# Altium footprint library конденсаторы.PcbLib: 48 footprints (part 1 of 3)
Each footprint in its own frame and in the unit in brackets; x right, y up, seen from the top. Pads: shape width x height; smd on the part's side, far side on the other; paste and mask are expansions set on the pad; w line width, h text height; cw(c..) or ccw(c..) is an arc to the next point about the centre after c.
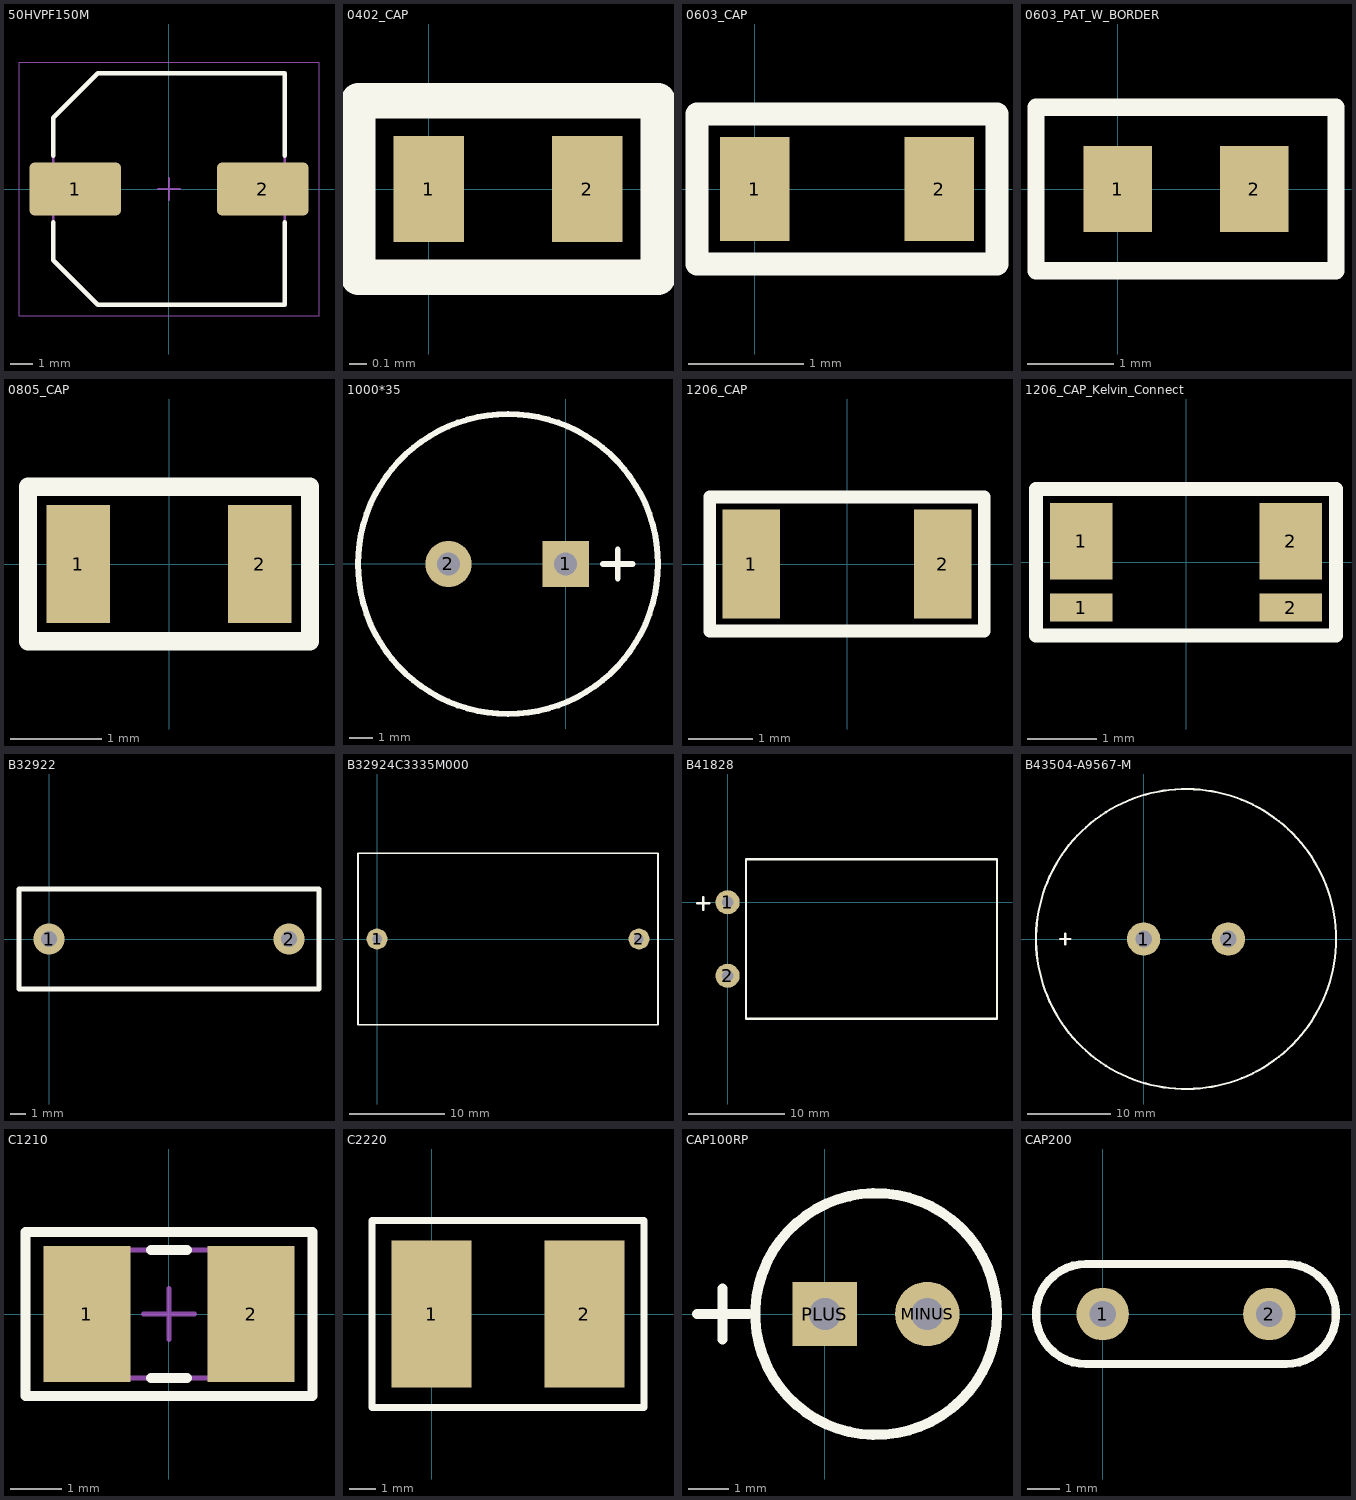
[diagram p0: the footprints below, top view; thin cyan lines are the x and y axes]

## 50HVPF150M [mm] "Aluminum Electrolytic Capacitor, Body 10,30x12,80mm"
height 12.8
pads (2):
  rrect20% 4.15x2.4 smd: 1(-4.25,0) 2(4.25,0)
Top Overlay:
  lines w0.2: -5.25,-1.5 -5.25,-3.225 -3.225,-5.25 5.25,-5.25 5.25,-1.5 ; -5.25,1.5 -5.25,3.225 -3.225,5.25 5.25,5.25 5.25,1.5
Mechanical 14:
  lines w0.1: -5.25,-3.225 -5.25,3.225 -3.225,5.25 5.25,5.25 5.25,-5.25 -3.225,-5.25 -5.25,-3.225
Mechanical 15:
  lines w0.05: -6.8,-5.75 6.8,-5.75 6.8,5.75 -6.8,5.75 -6.8,-5.75
  lines w0.1: -0.5,0 0.5,0 ; 0,-0.5 0,0.5
3D body: height 12.8, standoff 0, extent -5.25,-5.25 5.25,5.244
3D body: height 4.27, standoff 0, extent -5.25,-5.25 5.25,5.25

## 0402_CAP [mm] "Конденсатор 0402(1005)"
height 0.55
pads (2):
  rect 0.4x0.6 smd mask+0.025: 1(0,0) 2(0.9,0)
Top Overlay:
  lines w0.2: -0.4,-0.5 -0.4,0.5 1.3,0.5 1.3,-0.5 -0.4,-0.5
3D body "User Library-Capacitor 0402.SLDPRT": height 0.5, standoff 0, extent -0.05,-0.25 0.95,0.25

## 0603_CAP [mm] "Конденсатор 0603(1608)"
height 0.9
pads (2):
  rect 0.6x0.9 smd mask+0.025: 1(0,0) 2(1.6,0)
Top Overlay:
  lines w0.2: -0.5,-0.65 -0.5,0.65 2.1,0.65 2.1,-0.65 -0.5,-0.65
3D body "User Library-CAP_SMD-1 0603.SLDPRT": height 0.95, standoff 0.05, extent -0.05,-0.45 1.65,0.45

## 0603_PAT_W_BORDER [mm]
pads (2):
  rect 0.8x1 smd: 1(0,0) 2(1.587,0)
Top Overlay:
  lines w0.2: -0.953,-0.953 -0.953,0.953 2.54,0.953 2.54,-0.953 -0.953,-0.953

## 0805_CAP [mm] "Конденсатор 0805(2012)"
height 1.3
pads (2):
  rect 0.7x1.3 smd mask+0.025: 1(-1,0) 2(1,0)
Top Overlay:
  lines w0.2: -1.55,-0.85 1.55,-0.85 1.55,0.85 -1.55,0.85 -1.55,-0.85
3D body "User Library-cap_0805-1.SLDPRT": height 1.2, standoff 0, extent -1,-0.6 1,0.6

## 1000*35 [mm]
pads (2):
  rect 2x2 hole 1: 1(0,0)
  round 2 hole 1: 2(-5.08,0)
Top Overlay:
  circle w0.254: c-2.501,0 r6.501
  lines w0.254: 1.621,0 2.893,0 ; 2.257,-0.634 2.257,0.634

## 1206_CAP [mm] "Конденсатор 1206(3216)"
height 1.5
pads (2):
  rect 0.9x1.7 smd mask+0.025: 1(-1.5,0) 2(1.5,0)
Top Overlay:
  lines w0.2: -2.15,-1.05 -2.15,1.05 2.15,1.05 2.15,-1.05 -2.15,-1.05
3D body "User Library-cap_1206-1.SLDPRT": height 1.6, standoff 0, extent -1.6,-0.8 1.6,0.8

## 1206_CAP_Kelvin_Connect [mm] "Конденсатор 1206(3216)"
height 1.5
pads (4):
  rect 0.9x0.4 smd mask+0.025: 1(-1.5,-0.65) 2(1.5,-0.65)
  rect 0.9x1.1 smd mask+0.025: 1(-1.5,0.3) 2(1.5,0.3)
Top Overlay:
  lines w0.2: -2.15,-1.05 -2.15,1.05 2.15,1.05 2.15,-1.05 -2.15,-1.05
3D body "User Library-cap_1206-1.SLDPRT": height 1.6, standoff 0, extent -1.6,-0.8 1.6,0.8

## B32922 [mm]
pads (2):
  round 2 hole 1: 1(0,0) 2(15.24,0)
Top Overlay:
  lines w0.3: -1.905,-3.175 17.145,-3.175 17.145,3.175 -1.905,3.175 -1.905,-3.175

## B32924C3335M000 [mm] "3µ3x50V L31.5 W18 h27.5 e27.5"
pads (2):
  round 2.2 hole 1: 1(0,0) 2(27.5,0)
Top Overlay:
  lines w0.2: -2,-9 -2,9 0,9 27.5,9 29.5,9 29.5,-9 27.5,-9 0,-9 -2,-9
3D body "User Library-TDK B32924.SLDPRT": height 19, standoff -9, extent -2.05,-5.5 29.45,5.5

## B41828 [mm]
pads (2):
  round 2.5 hole 1.2: 1(0,0) 2(0,-7.62)
Top Overlay:
  lines w0.254: -3.176,-0.118 -1.904,-0.118 ; -2.54,-0.754 -2.54,0.518 ; 1.905,-12.065 1.905,4.445 27.94,4.445 27.94,-12.065 1.905,-12.065

## B43504-A9567-M [mm]
pads (2):
  round 4 hole 2: 1(0,0) 2(10.16,0)
Top Overlay:
  circle w0.254: c5.08,0 r18
  lines w0.254: -10.043,0 -8.771,0 ; -9.407,-0.636 -9.407,0.636

## C1210 [mm] "CAPM3225X25M, Molded Capacitor, 2-Leads, Body 3,20x2,50mm, IPC Low Density"
height 2.5
pads (2):
  rect 1.7x2.65 smd: 1(-1.6,0) 2(1.6,0)
Top Overlay:
  lines w0.2: -0.35,-1.25 0.35,-1.25 ; -0.35,1.25 0.35,1.25 ; -2.8,-1.6 -2.8,1.6 2.8,1.6 2.8,-1.6 -2.8,-1.6
Mechanical 14:
  lines w0.1: -1.6,-1.25 1.6,-1.25 1.6,1.25 -1.6,1.25 -1.6,-1.25
Mechanical 15:
  lines w0.05: -2.8,-1.6 2.8,-1.6 2.8,1.6 -2.8,1.6 -2.8,-1.6
  lines w0.1: -0.5,0 0.5,0 ; 0,-0.5 0,0.5
3D body "User Library-CAPC3225.SLDPRT": height 2.5, standoff 0, extent -1.6,-1.25 1.6,1.25

## C2220 [mm]
pads (2):
  rect 3x5.5 smd: 1(0,0) 2(5.715,0)
Top Overlay:
  lines w0.254: -2.222,-3.492 7.938,-3.492 7.938,3.492 -2.222,3.492 -2.222,-3.492

## CAP100RP [mm]
pads (2):
  round 1.6 hole 0.8: MINUS(2.54,0)
  rect 1.6x1.6 hole 0.8: PLUS(0,0)
Top Overlay:
  circle w0.254: c1.27,0 r3
  lines w0.254: -3.175,0 -1.905,0 ; -2.54,-0.635 -2.54,0.635

## CAP200 [mm]
pads (2):
  round 1.6 hole 0.8: 1(0,0) 2(5.08,0)
Top Overlay:
  lines w0.254: -0.508,-1.524 cw(c-0.508,0) -0.508,1.524 5.588,1.524 cw(c5.588,0) 5.588,-1.524 -0.508,-1.524